# Altium schematic symbol library Memory_Sch.SchLib: 1 symbol
Pins are listed as number, name and electrical type; pins without a type are passive.

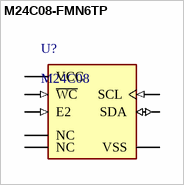
[diagram p0: symbol M24C08-FMN6TP]

## M24C08-FMN6TP
designator U?, comment M24C08
EEPROM Serial-I2C 8K-bit 1K x 8 1.8V/2.5V/3.3V/5V 8-Pin SOIC T/R; Manufacturer: STMicroelectronics; Manufacturer Part Number: M24C08-FMN6TP; RoHS: Yes; Category: Memory; ComponentLink1URL: https://datasheet.ciiva.com/30017/dm00070057-30017599.pdf?src-supplier=Avnet; ComponentLink1Description: DataSheet; ComponentLink2Description: Link; ComponentLink2URL: https://ozdisan.com/entegre-devreler-icler/hafiza-entegreleri/hafiza-entegreleri/M24C08-FMN6TP/515909; Package: SOIC8
footprint STM-SOIC-8_L (SOIC, 8-Leads, Body 5x4mm, Pitch 1.27mm, IPC High Density)
footprint STM-SOIC-8_M (SOIC, 8-Leads, Body 5x4mm, Pitch 1.27mm, IPC Low Density)
footprint STM-SOIC-8_N (SOIC, 8-Leads, Body 5x4mm, Pitch 1.27mm, IPC Medium Density)
pins: 1 NC "no connect", 2 NC "no connect", 3 E2 (in) "Chip Enable", 4 VSS (power) "VSS is the reference for the VCC supply voltage", 5 SDA (io) "Serial Data", 6 SCL (in) "Serial Clock", 7 ~{WC} (in) "Write Control", 8 VCC (power) "Supply voltage"